# Altium schematic symbol library LM2596_DC_DC.SchLib: 2 symbols
Pins are listed as number, name and electrical type; pins without a type are passive.

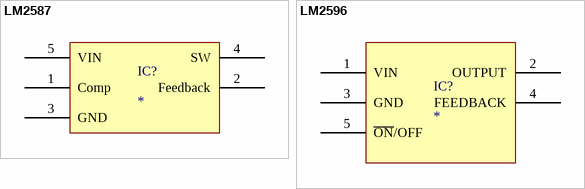
[diagram p0: symbols LM2587 to LM2596]

## LM2587
designator IC?
Boost Converter
footprint D2PAK
pins: 1 Comp, 2 Feedback, 3 GND, 4 SW, 5 VIN

## LM2596
designator IC?
IC-2596 V.REG.3A STEP-DOWN TO-263-5L; Current: 3A
footprint D2PAK
pins: 1 VIN, 2 OUTPUT, 3 GND, 4 FEEDBACK, 5 ~{ON}/OFF